# EAGLE library part STM32L052T6Y6TR (library circuit_tree)
IC
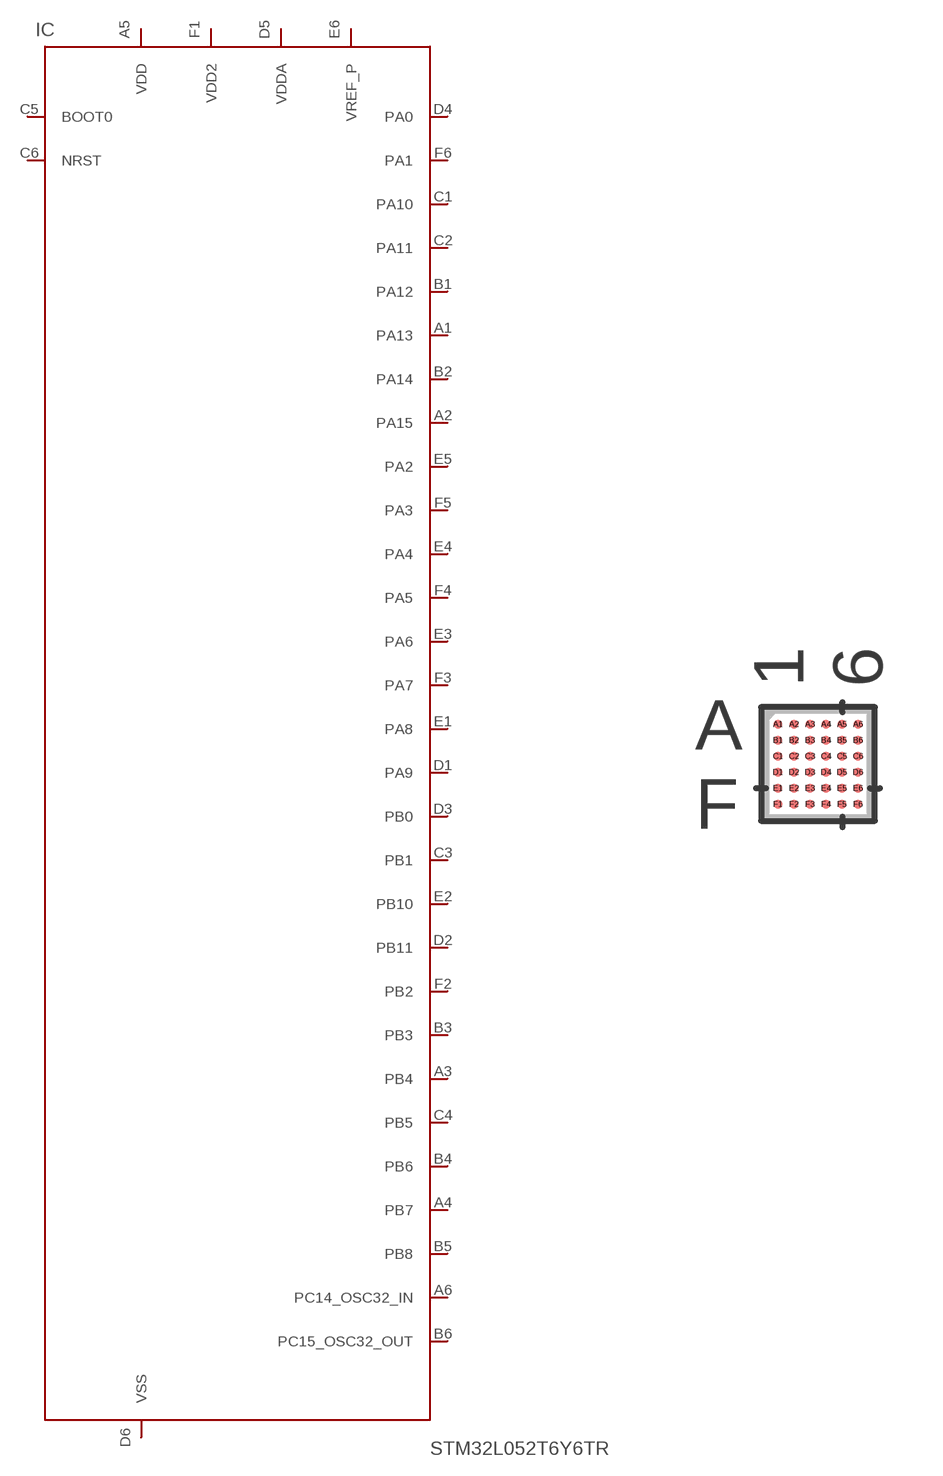
[diagram p4: symbol with the pads of WLCSP36; footprint WLCSP36]

Designator prefix IC

## STM32L052T6Y6TR  [WLCSP36]
A1  PA13  pas
A2  PA15  pas
A3  PB4  pas
A4  PB7  pas
A5  VDD  pas
A6  PC14_OSC32_IN  pas
B1  PA12  pas
B2  PA14  pas
B3  PB3  pas
B4  PB6  pas
B5  PB8  pas
B6  PC15_OSC32_OUT  pas
C1  PA10  pas
C2  PA11  pas
C3  PB1  pas
C4  PB5  pas
C5  BOOT0  pas
C6  NRST  pas
D1  PA9  pas
D2  PB11  pas
D3  PB0  pas
D4  PA0  pas
D5  VDDA  pas
D6  VSS  pas
E1  PA8  pas
E2  PB10  pas
E3  PA6  pas
E4  PA4  pas
E5  PA2  pas
E6  VREF_P  pas
F1  VDD2  pas
F2  PB2  pas
F3  PA7  pas
F4  PA5  pas
F5  PA3  pas
F6  PA1  pas

## Footprint WLCSP36 (pad centres in mm)
smd 0.229 x 0.229: A1 -1,1; A2 -0.6,1; A3 -0.2,1; A4 0.2,1; A5 0.6,1; A6 1,1; B1 -1,0.6; B2 -0.6,0.6; B3 -0.2,0.6; B4 0.2,0.6; B5 0.6,0.6; B6 1,0.6; C1 -1,0.2; C2 -0.6,0.2; C3 -0.2,0.2; C4 0.2,0.2; C5 0.6,0.2; C6 1,0.2; D1 -1,-0.2; D2 -0.6,-0.2; D3 -0.2,-0.2; D4 0.2,-0.2; D5 0.6,-0.2; D6 1,-0.2; E1 -1,-0.6; E2 -0.6,-0.6; E3 -0.2,-0.6; E4 0.2,-0.6; E5 0.6,-0.6; E6 1,-0.6; F1 -1,-1; F2 -0.6,-1; F3 -0.2,-1; F4 0.2,-1; F5 0.6,-1; F6 1,-1